# EAGLE library part LF20021121-20 (library con-amp-minitek)
HEADER
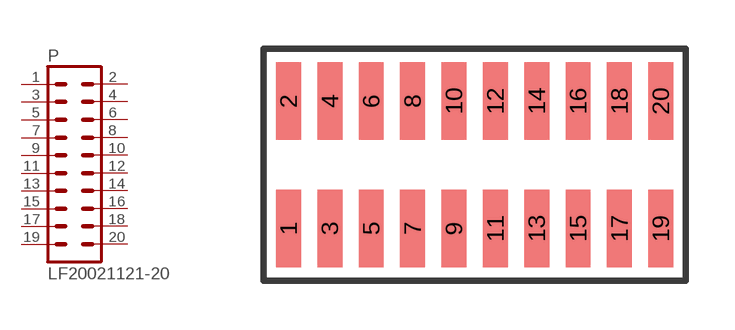
[diagram p5: symbol with the pads of LF20021121-20; footprint LF20021121-20]

Designator prefix P

## LF20021121-20  [LF20021121-20]
1  1  pas
2  2  pas
3  3  pas
4  4  pas
5  5  pas
6  6  pas
7  7  pas
8  8  pas
9  9  pas
10  10  pas
11  11  pas
12  12  pas
13  13  pas
14  14  pas
15  15  pas
16  16  pas
17  17  pas
18  18  pas
19  19  pas
20  20  pas

## Footprint LF20021121-20 (pad centres in mm)
HEADER
smd 0.762 x 2.388: 1 -5.715,-1.956; 2 -5.715,1.956; 3 -4.445,-1.956; 4 -4.445,1.956; 5 -3.175,-1.956; 6 -3.175,1.956; 7 -1.905,-1.956; 8 -1.905,1.956; 9 -0.635,-1.956; 10 -0.635,1.956; 11 0.635,-1.956; 12 0.635,1.956; 13 1.905,-1.956; 14 1.905,1.956; 15 3.175,-1.956; 16 3.175,1.956; 17 4.445,-1.956; 18 4.445,1.956; 19 5.715,-1.956; 20 5.715,1.956